# EAGLE library part LED_PLCC6 (library userlib)
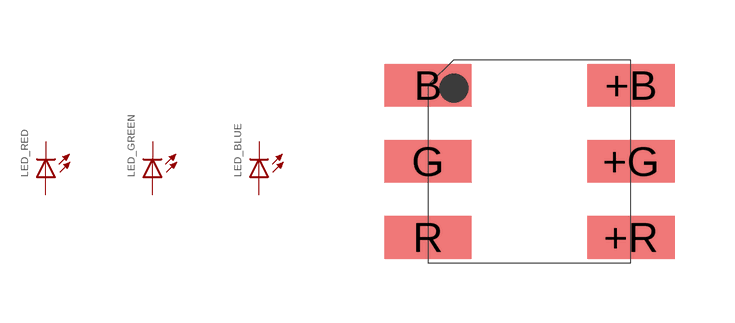
[diagram p17: symbol with the pads of LED_PLCC6; footprint LED_PLCC6]

Designator prefix LED; gates _RED=LED_3X_PLCC6 _GREEN=LED_3X_PLCC6 _BLUE=LED_3X_PLCC6

## LED_PLCC6  [LED_PLCC6]
+B  _BLUE:+A  pas
+G  _GREEN:+A  pas
+R  _RED:+A  pas
B  _BLUE:-K  pas
G  _GREEN:-K  pas
R  _RED:-K  pas

## Footprint LED_PLCC6 (pad centres in mm)
smd 2.184 x 1.067: +B 2.61,1.855; +G 2.61,-0.05; +R 2.61,-1.955; B -2.47,1.855; G -2.47,-0.05; R -2.47,-1.955